# EAGLE library part MAX4378*? (library SteMarie)
Maxim Quad High-Side Current-Sense Amplifier with Internal Gain General Description The MAX4376/MAX4377/MAX4378 single, dual, and quad precision high-side current-sense amplifiers are available in space-saving packages. They feature buffered voltage outputs that eliminate the need for gain-setting resistors and are ideal for today?s notebook computers, cell phones, and other systems where current monitoring is critical. These precision devices are offered in three fixed-gain versions of 20, 50, and 100: GAIN SUFFIX 20 T 50 F 100 H For example, MAX4376TAUK is a single high-side amplifier with a gain of 20. High-side current monitoring is especially useful in battery- powered systems since it does not interfere with the ground path of the battery charger. The input common- mode range of 0 to +28V is independent of the supply voltage and ensures that the current-sense feedback remains viable even when connected to a battery pack in deep discharge. The full-scale current reading can be set by choosing the appropriate voltage gain and external-sense resistor. This capability offers a high level of integration and flexibility, resulting in a simple and compact currentsense solution. The MAX4376/MAX4377/MAX4378 operate over a supply voltage range of +3V to +28V, draw 1mA of supply current per amplifier, and operate over the full automotive temperature range of -40°C to +125°C. These devices have a wide bandwidth of 2MHz, making them suitable for use inside battery-charger control loops. The buffered outputs drive up to 2mA of output current into a ground-referenced load.
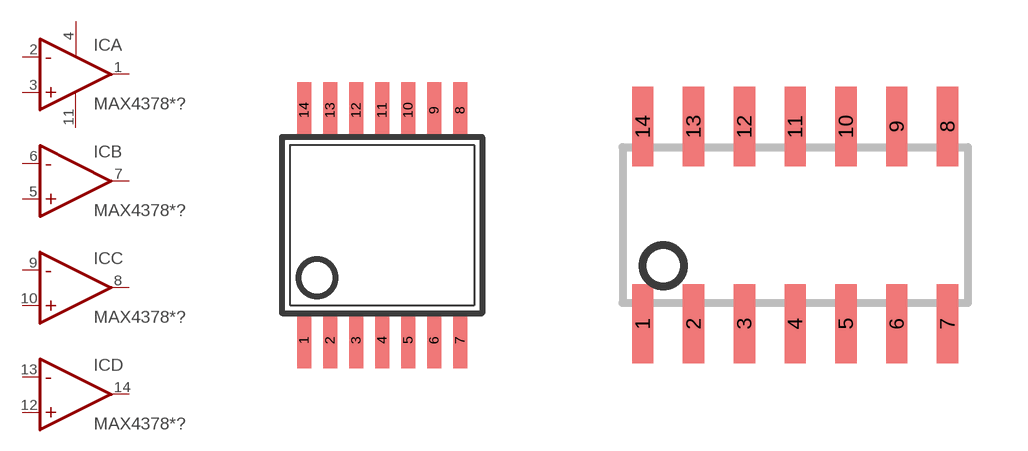
[diagram p3: symbol with the pads of TSSOP14-MAXIM; footprints TSSOP14-MAXIM, SOIC14-MAXIM]

Designator prefix IC; gates A=AMP B=AMP C=AMP D=AMP PWR=PWR-VCC/GND

## MAX4378FAUD+ (GAIN: 50), MAX4378HAUD+ (GAIN: 100), MAX4378TAUD+ (GAIN: 20)  [TSSOP14-MAXIM]
1  A:OUT  out
2  A:-IN  in
3  A:+IN  in
4  PWR:VCC  pwr
5  B:+IN  in
6  B:-IN  in
7  B:OUT  out
8  C:OUT  out
9  C:-IN  in
10  C:+IN  in
11  PWR:GND  pwr
12  D:+IN  in
13  D:-IN  in
14  D:OUT  out

## MAX4378FASD+ (GAIN: 50), MAX4378HASD+ (GAIN: 100), MAX4378TASD+ (GAIN: 20)  [SOIC14-MAXIM]
Pads as for TSSOP14-MAXIM

## Footprint TSSOP14-MAXIM (pad centres in mm)
Maxim TSSOP-14 recommended footprint From drawings 90-0117 rev C <http://pdfserv.maxim-ic.com/land_patterns/90-0117.PDF> and 21-0066 rev L <http://pdfserv.maxim-ic.com/package_dwgs/21-0066.PDF>
smd 0.35 x 1.4: 1 -1.95,-2.875; 2 -1.3,-2.875; 3 -0.65,-2.875; 4 0,-2.875; 5 0.65,-2.875; 6 1.3,-2.875; 7 1.95,-2.875; 8 1.95,2.875; 9 1.3,2.875; 10 0.65,2.875; 11 0,2.875; 12 -0.65,2.875; 13 -1.3,2.875; 14 -1.95,2.875

## Footprint SOIC14-MAXIM (pad centres in mm)
Maxim SOIC-14 recommended footprint From drawings 90-0096 rev B <http://pdfserv.maxim-ic.com/land_patterns/90-0096.PDF> and 21-0041 rev C <http://pdfserv.maxim-ic.com/package_dwgs/21-0041.PDF>
smd 0.533 x 1.981: 1 -3.81,-2.464; 2 -2.54,-2.464; 3 -1.27,-2.464; 4 0,-2.464; 5 1.27,-2.464; 6 2.54,-2.464; 7 3.81,-2.464; 8 3.81,2.464; 9 2.54,2.464; 10 1.27,2.464; 11 0,2.464; 12 -1.27,2.464; 13 -2.54,2.464; 14 -3.81,2.464